# Altium footprint library sensor.PcbLib: 5 footprints
Each footprint in its own frame and in the unit in brackets; x right, y up, seen from the top. Pads: shape width x height; smd on the part's side, far side on the other; paste and mask are expansions set on the pad; w line width, h text height; cw(c..) or ccw(c..) is an arc to the next point about the centre after c.
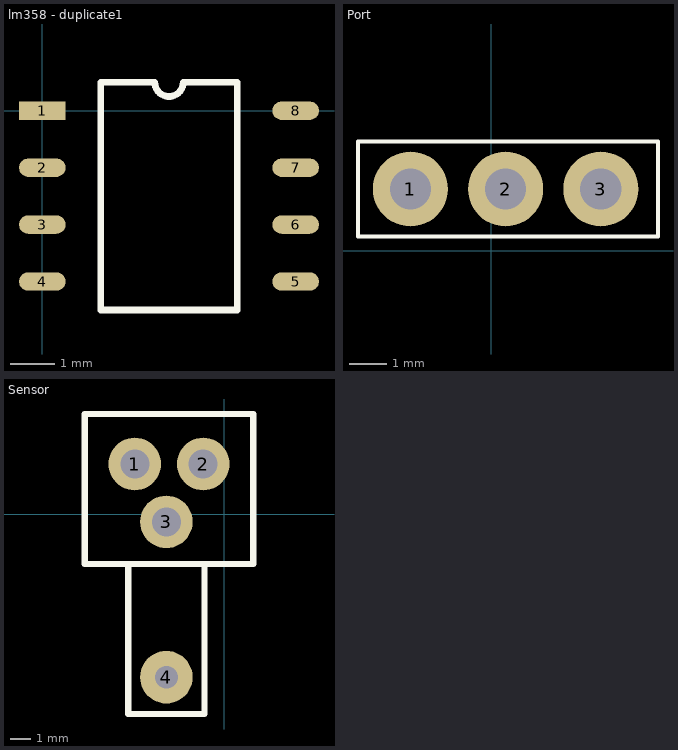
[diagram p0: the footprints below, top view; thin cyan lines are the x and y axes]

## LM358 [mil]

## lm358 - duplicate [mil]

## lm358 - duplicate1 [mm]
pads (8):
  rect 1.04x0.41 smd: 1(0,0)
  oval 1.04x0.41 smd: 2(0,-1.27) 3(0,-2.54) 4(0,-3.81) 5(5.65,-3.81) 6(5.65,-2.54) 7(5.65,-1.27) 8(5.65,0)
Top Overlay:
  lines w0.15: 1.305,-4.445 1.305,0.635 2.507,0.635 ccw(c2.825,0.635) 3.142,0.635 4.345,0.635 4.345,-4.445 1.305,-4.445

## Port [mm]
pads (3):
  round 2 hole 1.1: 1(-2.159,1.651) 2(0.381,1.651) 3(2.921,1.651)
Top Overlay:
  lines w0.1: -3.556,0.381 4.445,0.381 4.445,2.921 4.318,2.921 -3.556,2.921 -3.556,0.381

## Sensor [mil]
pads (4):
  round 100 hole 55.12: 1(-170,95) 2(-40,95) 3(-110,-15)
  round 100 hole 43.31: 4(-110,-310)
Top Overlay:
  lines w11.81: -190,-95 -185,-95 ; -182.5,-95 -182.5,-365 -182.5,-380 -37.5,-380 -37.5,-370 -37.5,-100 ; -265,-95 -265,190 55,190 55,-95 -265,-95
3D body: height 62.99, standoff 0, extent 120,-155 120,-155